# Altium footprint library SOT1210 (LFPAK33).PcbLib: 1 footprints
Each footprint in its own frame and in the unit in brackets; x right, y up, seen from the top. Pads: shape width x height; smd on the part's side, far side on the other; paste and mask are expansions set on the pad; w line width, h text height; cw(c..) or ccw(c..) is an arc to the next point about the centre after c.
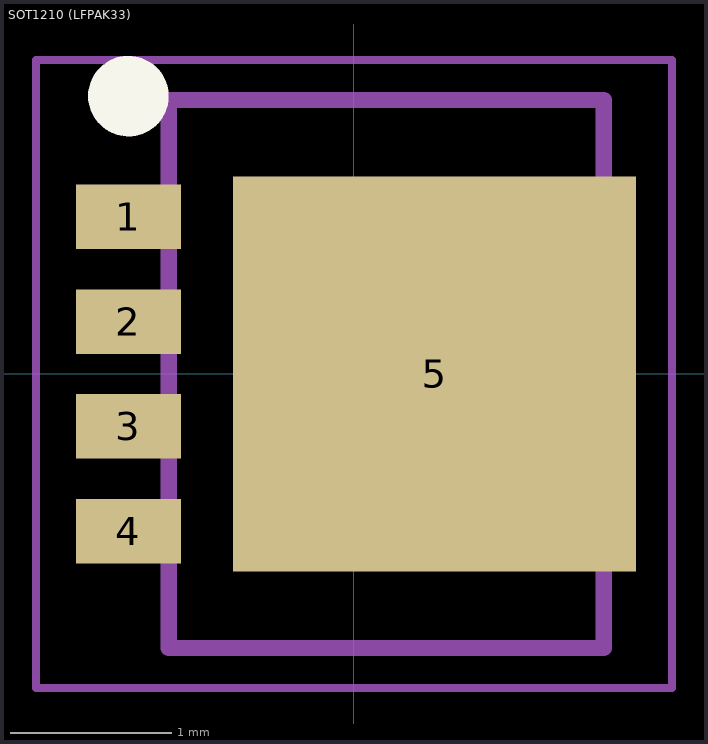
[diagram p0: the footprint, top view; thin cyan lines are the x and y axes]

## SOT1210 (LFPAK33) [mm] "DPAK, 5-Leads, Body 3.4x2.7mm, Pitch 0.65mm, IPC Medium Density"
height 0.9
pads (5):
  rect 0.65x0.4 smd: 1(-1.4,0.975) 2(-1.4,0.325) 3(-1.4,-0.325) 4(-1.4,-0.975)
  rect 2.5x2.45 smd: 5(0.5,0)
Top Overlay:
  circle w0.25: c-1.4,1.725 r0.125
Mechanical 13:
  lines w0.1: -1.15,-1.7 -1.15,1.7 1.55,1.7 1.55,-1.7 -1.15,-1.7
Mechanical 15:
  lines w0.05: -1.975,-1.95 -1.975,1.95 1.975,1.95 1.975,-1.95 -1.975,-1.95
  lines w0.1: -0.5,0 0.5,0 ; 0,-0.5 0,0.5
3D body "User Library-PSMN3R0-30MLC.STEP": height 0.9, standoff -0.05, extent -1.657,-1.65 1.664,1.65